# EAGLE library part BC833M-V4 (library BC833M-V4-lib)
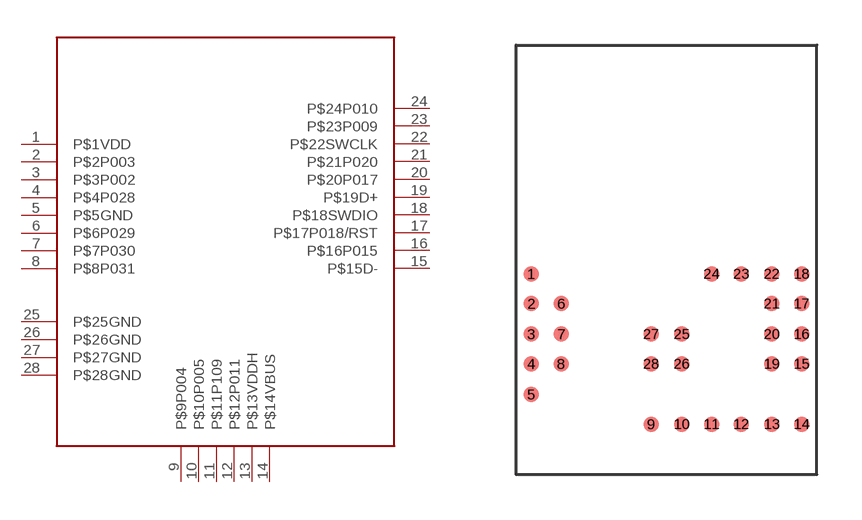
[diagram p0: symbol with the pads of BC833M-V4; footprint BC833M-V4]

Designator prefix U?

## BC833M-V4  [BC833M-V4]
1  P$1VDD
2  P$2P003
3  P$3P002
4  P$4P028
5  P$5GND
6  P$6P029
7  P$7P030
8  P$8P031
9  P$9P004
10  P$10P005
11  P$11P109
12  P$12P011
13  P$13VDDH
14  P$14VBUS
15  P$15D-
16  P$16P015
17  P$17P018/RST
18  P$18SWDIO
19  P$19D+
20  P$20P017
21  P$21P020
22  P$22SWCLK
23  P$23P009
24  P$24P010
25  P$25GND
26  P$26GND
27  P$27GND
28  P$28GND

## Footprint BC833M-V4 (pad centres in mm)
Original name
smd 0.508 x 0.508: 1 -4.496,4.801; 2 -4.496,3.81; 3 -4.496,2.794; 4 -4.496,1.803; 5 -4.496,0.787; 6 -3.505,3.81; 7 -3.505,2.794; 8 -3.505,1.803; 9 -0.508,-0.203; 10 0.508,-0.203; 11 1.499,-0.203; 12 2.489,-0.203; 13 3.505,-0.203; 14 4.496,-0.203; 15 4.496,1.803; 16 4.496,2.794; 17 4.496,3.81; 18 4.496,4.801; 19 3.505,1.803; 20 3.505,2.794; 21 3.505,3.81; 22 3.505,4.801; 23 2.489,4.801; 24 1.499,4.801; 25 0.508,2.794; 26 0.508,1.803; 27 -0.508,2.794; 28 -0.508,1.803